# Altium integrated library EVQ-P7J01P.IntLib: 1 symbol
Pins are listed as number, name and electrical type; pins without a type are passive.

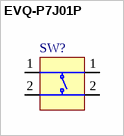
[diagram p0: symbol EVQ-P7J01P]

## EVQ-P7J01P
designator SW?  (value not drawn)
Switch Tactile N.O. SPST Rectangular Button Gull Wing 0.05A 12VDC 100000Cycle 1.6N SMD Embossed T/R; MF: Panasonic Electronic; Package: None; SnapEDA_Link: https://www.snapeda.com/parts/EVQ-P7J01P/Panasonic%20Electronic%20Components/view-part/?ref=snap; HelpURL: *; Parameter 1: *; Model: EVQ-P7J01P
footprint SW_EVQP7J01P
pins: 1, 1, 2, 2